# EAGLE library part STM32F103RCT6 (library STM32)
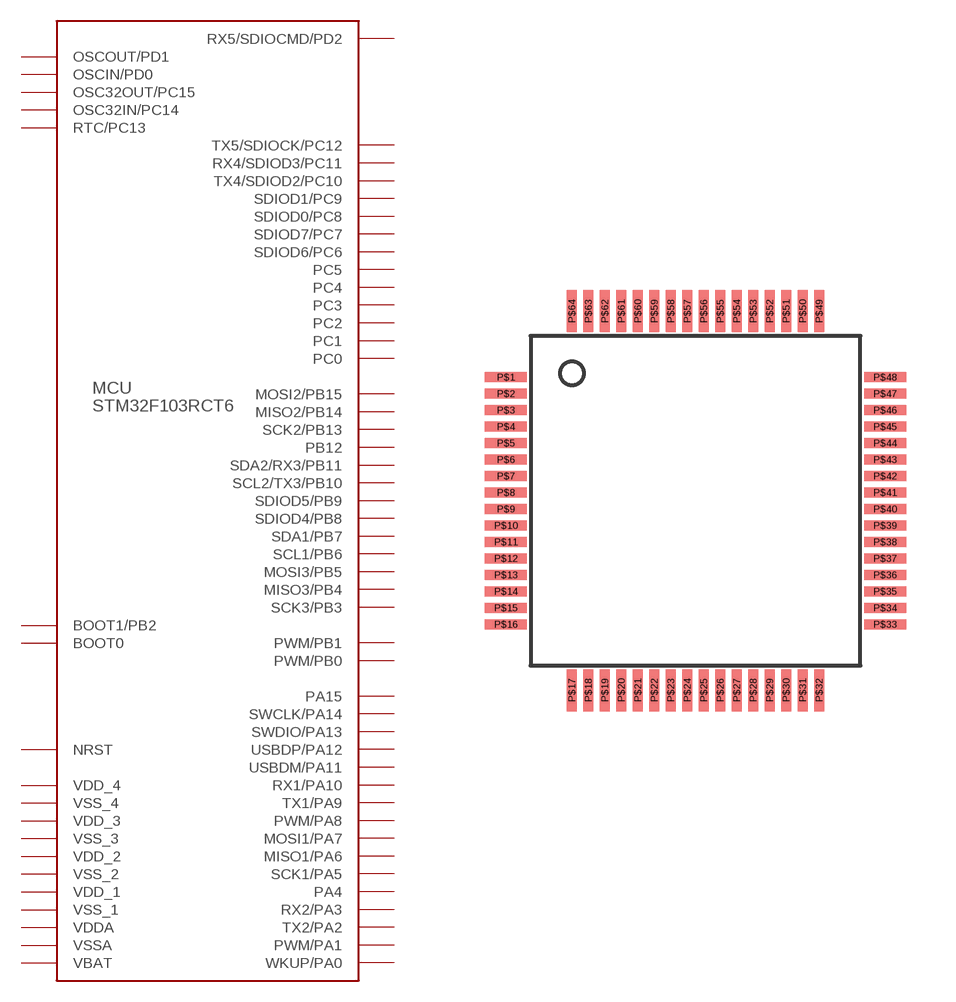
[diagram p1: symbol with the pads of LQFP64; footprint LQFP64]

Designator prefix MCU

## STM32F103RCT6  [LQFP64]
P$1  VBAT
P$2  RTC/PC13
P$3  OSC32IN/PC14
P$4  OSC32OUT/PC15
P$5  OSCIN/PD0
P$6  OSCOUT/PD1
P$7  NRST
P$8  PC0
P$9  PC1
P$10  PC2
P$11  PC3
P$12  VSSA
P$13  VDDA
P$14  WKUP/PA0
P$15  PWM/PA1
P$16  TX2/PA2
P$17  RX2/PA3
P$18  VSS_4
P$19  VDD_4
P$20  PA4
P$21  SCK1/PA5
P$22  MISO1/PA6
P$23  MOSI1/PA7
P$24  PC4
P$25  PC5
P$26  PWM/PB0
P$27  PWM/PB1
P$28  BOOT1/PB2
P$29  SCL2/TX3/PB10
P$30  SDA2/RX3/PB11
P$31  VSS_1
P$32  VDD_1
P$33  PB12
P$34  SCK2/PB13
P$35  MISO2/PB14
P$36  MOSI2/PB15
P$37  SDIOD6/PC6
P$38  SDIOD7/PC7
P$39  SDIOD0/PC8
P$40  SDIOD1/PC9
P$41  PWM/PA8
P$42  TX1/PA9
P$43  RX1/PA10
P$44  USBDM/PA11
P$45  USBDP/PA12
P$46  SWDIO/PA13
P$47  VSS_2
P$48  VDD_2
P$49  SWCLK/PA14
P$50  PA15
P$51  TX4/SDIOD2/PC10
P$52  RX4/SDIOD3/PC11
P$53  TX5/SDIOCK/PC12
P$54  RX5/SDIOCMD/PD2
P$55  SCK3/PB3
P$56  MISO3/PB4
P$57  MOSI3/PB5
P$58  SCL1/PB6
P$59  SDA1/PB7
P$60  BOOT0
P$61  SDIOD4/PB8
P$62  SDIOD5/PB9
P$63  VSS_3
P$64  VDD_3

## Footprint LQFP64 (pad centres in mm)
smd 1.27 x 0.305: P$1 -5.75,3.75; P$2 -5.75,3.25; P$3 -5.75,2.75; P$4 -5.75,2.25; P$5 -5.75,1.75; P$6 -5.75,1.25; P$7 -5.75,0.75; P$8 -5.75,0.25; P$9 -5.75,-0.25; P$10 -5.75,-0.75; P$11 -5.75,-1.25; P$12 -5.75,-1.75; P$13 -5.75,-2.25; P$14 -5.75,-2.75; P$15 -5.75,-3.25; P$16 -5.75,-3.75; P$33 5.75,-3.75; P$34 5.75,-3.25; P$35 5.75,-2.75; P$36 5.75,-2.25; P$37 5.75,-1.75; P$38 5.75,-1.25; P$39 5.75,-0.75; P$40 5.75,-0.25; P$41 5.75,0.25; P$42 5.75,0.75; P$43 5.75,1.25; P$44 5.75,1.75; P$45 5.75,2.25; P$46 5.75,2.75; P$47 5.75,3.25; P$48 5.75,3.75
smd 0.305 x 1.27: P$17 -3.75,-5.75; P$18 -3.25,-5.75; P$19 -2.75,-5.75; P$20 -2.25,-5.75; P$21 -1.75,-5.75; P$22 -1.25,-5.75; P$23 -0.75,-5.75; P$24 -0.25,-5.75; P$25 0.25,-5.75; P$26 0.75,-5.75; P$27 1.25,-5.75; P$28 1.75,-5.75; P$29 2.25,-5.75; P$30 2.75,-5.75; P$31 3.25,-5.75; P$32 3.75,-5.75; P$49 3.75,5.75; P$50 3.25,5.75; P$51 2.75,5.75; P$52 2.25,5.75; P$53 1.75,5.75; P$54 1.25,5.75; P$55 0.75,5.75; P$56 0.25,5.75; P$57 -0.25,5.75; P$58 -0.75,5.75; P$59 -1.25,5.75; P$60 -1.75,5.75; P$61 -2.25,5.75; P$62 -2.75,5.75; P$63 -3.25,5.75; P$64 -3.75,5.75